# EAGLE library part FT240X (library ftdi-chip)
USB TO BASIC UART IC
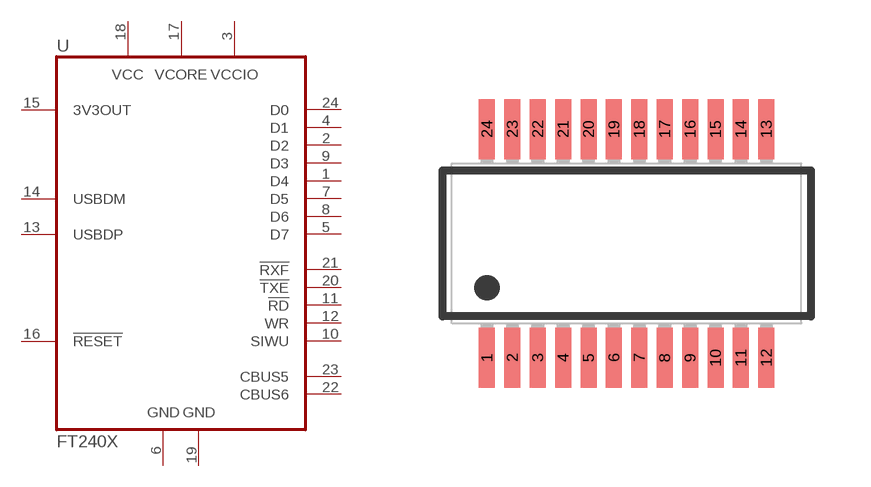
[diagram p10: symbol with the pads of SSOP24; footprint SSOP24]

Designator prefix U

## FT240XS  [SSOP24]
1  D4
2  D2
3  VCCIO
4  D1
5  D7
6  GND
7  D5
8  D6
9  D3
10  SIWU
11  !RD!
12  WR
13  USBDP
14  USBDM
15  3V3OUT
16  !RESET!
17  VCORE
18  VCC
19  GND
20  !TXE!
21  !RXF!
22  CBUS6
23  CBUS5
24  D0

## Footprint SSOP24 (pad centres in mm)
24-SSOP - Shrink Small Outline Package pitch 0.025" (0.154", 3.90mm Width)
smd 0.4 x 1.5: 1 -3.493,-2.857; 2 -2.857,-2.857; 3 -2.223,-2.857; 4 -1.587,-2.857; 5 -0.953,-2.857; 6 -0.318,-2.857; 7 0.318,-2.857; 8 0.953,-2.857; 9 1.587,-2.857; 10 2.223,-2.857; 11 2.857,-2.857; 12 3.493,-2.857; 13 3.493,2.857; 14 2.857,2.857; 15 2.223,2.857; 16 1.587,2.857; 17 0.953,2.857; 18 0.318,2.857; 19 -0.318,2.857; 20 -0.953,2.857; 21 -1.587,2.857; 22 -2.223,2.857; 23 -2.857,2.857; 24 -3.493,2.857